# EAGLE library part PREC12X1 (library con-pinheader-precision)
female precision header
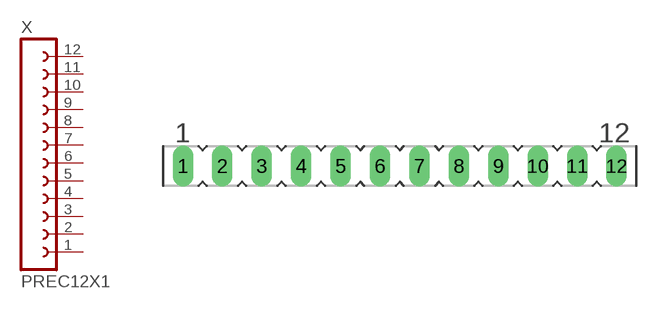
[diagram p41: symbol with the pads of PREC12X1-2.54; footprint PREC12X1-2.54]

Designator prefix X

## PREC12X1-2.54MM (OC_FARNELL: unknown; OC_NEWARK: unknown)  [PREC12X1-2.54]
1  1  pas
2  2  pas
3  3  pas
4  4  pas
5  5  pas
6  6  pas
7  7  pas
8  8  pas
9  9  pas
10  10  pas
11  11  pas
12  12  pas

## Footprint PREC12X1-2.54 (pad centres in mm)
female precision header
drill 0.813 long: 1 -13.97,0; 2 -11.43,0; 3 -8.89,0; 4 -6.35,0; 5 -3.81,0; 6 -1.27,0; 7 1.27,0; 8 3.81,0; 9 6.35,0; 10 8.89,0; 11 11.43,0; 12 13.97,0